# EAGLE library part TA7291FG (library FaBo-Motor)
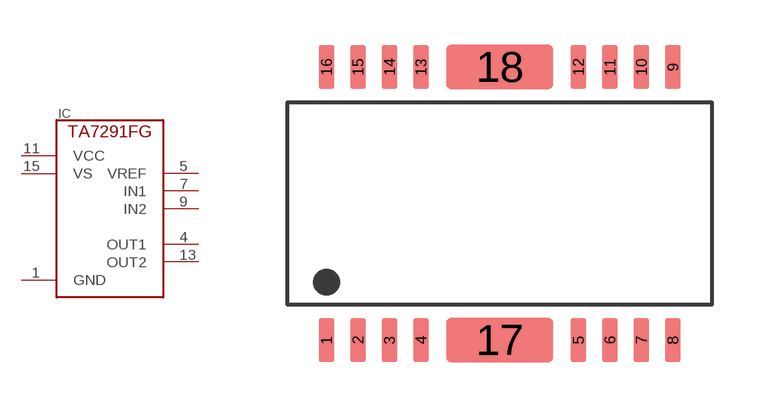
[diagram p9: symbol with the pads of TA7291FG; footprint TA7291FG]

Designator prefix IC

## TA7291FG  [TA7291FG]
1  GND
4  OUT1
5  VREF
7  IN1
9  IN2
11  VCC
13  OUT2
15  VS

## Footprint TA7291FG (pad centres in mm)
smd 0.5 x 1.4: 1 -5.5,-4.34; 2 -4.5,-4.34; 3 -3.5,-4.34; 4 -2.5,-4.34; 5 2.5,-4.34; 6 3.5,-4.34; 7 4.5,-4.34; 8 5.5,-4.34; 9 5.5,4.34; 10 4.5,4.34; 11 3.5,4.34; 12 2.5,4.34; 13 -2.5,4.34; 14 -3.5,4.34; 15 -4.5,4.34; 16 -5.5,4.34
smd 3.4 x 1.4: 17 0,-4.34; 18 0,4.34